# Altium schematic symbol library SCH - POWER - SWITCHMODE - TI TPS61236PRWL.SchLib: 1 symbol
Pins are listed as number, name and electrical type; pins without a type are passive.

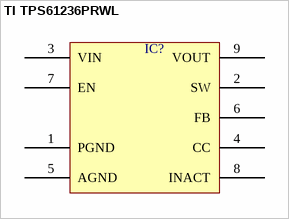
[diagram p0: symbol TI TPS61236PRWL]

## TI TPS61236PRWL
designator IC?  (value not drawn)
pins: 1 PGND, 2 SW, 3 VIN, 4 CC, 5 AGND, 6 FB, 7 EN, 8 INACT, 9 VOUT